# EAGLE library part PS9505L1 (library MakeItLabs)
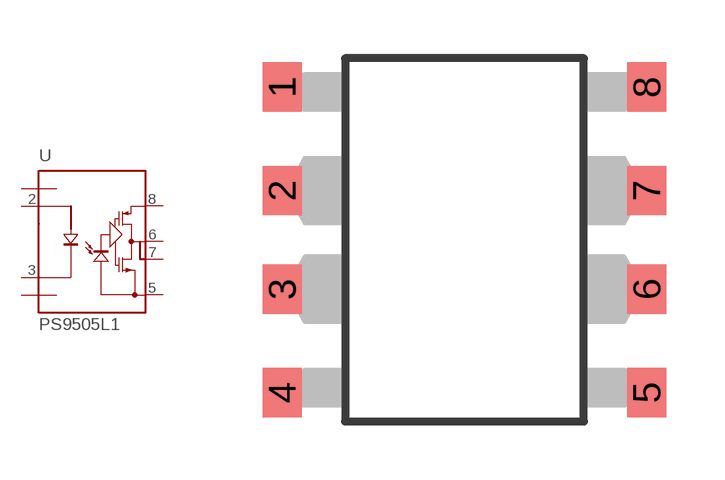
[diagram p3: symbol with the pads of SO8-GW300; footprint SO8-GW300]

Designator prefix -

## PS9505L1  [SO8-GW300]
1  NC  nc
2  ANODE  pas
3  CATHODE  pas
4  NC1  nc
5  GND2  pas
6  VO  pas
7  VO1  pas
8  VCC  pas

## Footprint SO8-GW300 (pad centres in mm)
HCPL-772X Package witch Gull Wing Surface Mount Option 300 Source: HCPL7221.pdf
smd 1 x 1.27: 1 -4.69,3.937; 2 -4.69,1.27; 3 -4.69,-1.27; 4 -4.69,-3.937; 5 4.69,-3.937; 6 4.69,-1.27; 7 4.69,1.27; 8 4.69,3.937